# Altium footprint library Capacitors.PcbLib: 3 footprints
Each footprint in its own frame and in the unit in brackets; x right, y up, seen from the top. Pads: shape width x height; smd on the part's side, far side on the other; paste and mask are expansions set on the pad; w line width, h text height; cw(c..) or ccw(c..) is an arc to the next point about the centre after c.
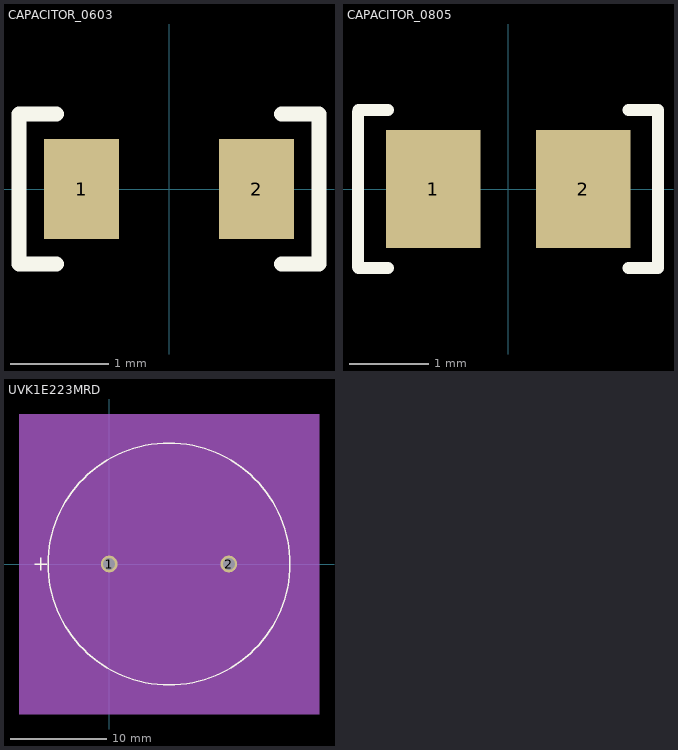
[diagram p0: the footprints below, top view; thin cyan lines are the x and y axes]

## CAPACITOR_0603 [mil] "CAPACITOR 0603"
pads (2):
  rect 30x40 smd: 1(-35,0) 2(35,0)
Top Overlay:
  lines w6: -45,-30 -60,-30 -60,30 -45,30 ; 45,-30 60,-30 60,30 45,30
3D body "Capcap.SLDPRT": height 31.5, standoff 0, extent -31.49,-15.74 31.5,15.75

## CAPACITOR_0805 [mm] "CAPACITOR 0805"
pads (2):
  rect 1.2x1.5 smd: 1(-0.95,0) 2(0.95,0)
Top Overlay:
  lines w0.152: -1.905,-0.988 -1.905,0.978 ; -1.9,-1 -1.524,-1 ; -1.9,1 -1.524,1 ; 1.524,-1 1.9,-1 1.9,1 1.524,1
3D body "User Library-Ceramic_Capacitor_0805_h50mil.STEP": height 1.26, standoff 0.01, extent -1,-0.625 1,0.625

## UVK1E223MRD [mil]
pads (2):
  round 69 hole 49 mask+0: 1(0,0) 2(492.13,0)
Top Overlay:
  circle w6: c246.06,0 r497
  lines w6: -305.94,0 -255.94,0 ; -280.94,-25 -280.94,25
Mechanical 5:
  region: 863.06,-617 -370.94,-617 -370.94,617 863.06,617
Mechanical 7:
  lines w1: -245.94,0 -245.94,557 ; 0,-557 0,0 ; 246.06,-492 803.06,-492 ; 246.06,492 803.06,492 ; 492.13,-557 492.13,0 ; 738.06,0 738.06,557 ; -245.94,542 738.06,542 ; -245.94,542 -235.94,547 -235.94,537 -245.94,542 ; 0,-542 492.13,-542 ; 0,-542 10,-537 10,-547 0,-542 ; 492.13,-542 482.13,-537 482.13,-547 492.13,-542 ; 738.06,542 728.06,547 728.06,537 738.06,542 ; 788.06,-492 788.06,492 ; 788.06,-492 783.06,-482 793.06,-482 788.06,-492 ; 788.06,492 783.06,482 793.06,482 788.06,492
  text "0.492in/12.5mm" at 158.56,-587 h25
  text "0.984in/24.994mm" at 146.06,562 h25
Mechanical 13:
  circle w0: c246.06,0 r492
  lines w1: -305.94,0 -255.94,0 ; -280.94,-25 -280.94,25
Mechanical 15:
  region: -255.94,206.71 39.36,502 452.77,502 748.06,206.71 748.06,-206.71 452.77,-502 39.36,-502 -255.94,-206.71
  lines w1: -255.94,-206.71 39.36,-502 452.77,-502 748.06,-206.71 748.06,206.71 452.77,502 39.36,502 -255.94,206.71 -255.94,-206.71
3D body "CAP_UFW_25X50_NCH.step": height 2047.6, standoff -217.01, extent -245.94,-492 738.06,492